# Altium footprint library ST Microelectronics STM32 G0.PcbLib: 22 footprints (part 1 of 2)
Each footprint in its own frame and in the unit in brackets; x right, y up, seen from the top. Pads: shape width x height; smd on the part's side, far side on the other; paste and mask are expansions set on the pad; w line width, h text height; cw(c..) or ccw(c..) is an arc to the next point about the centre after c.
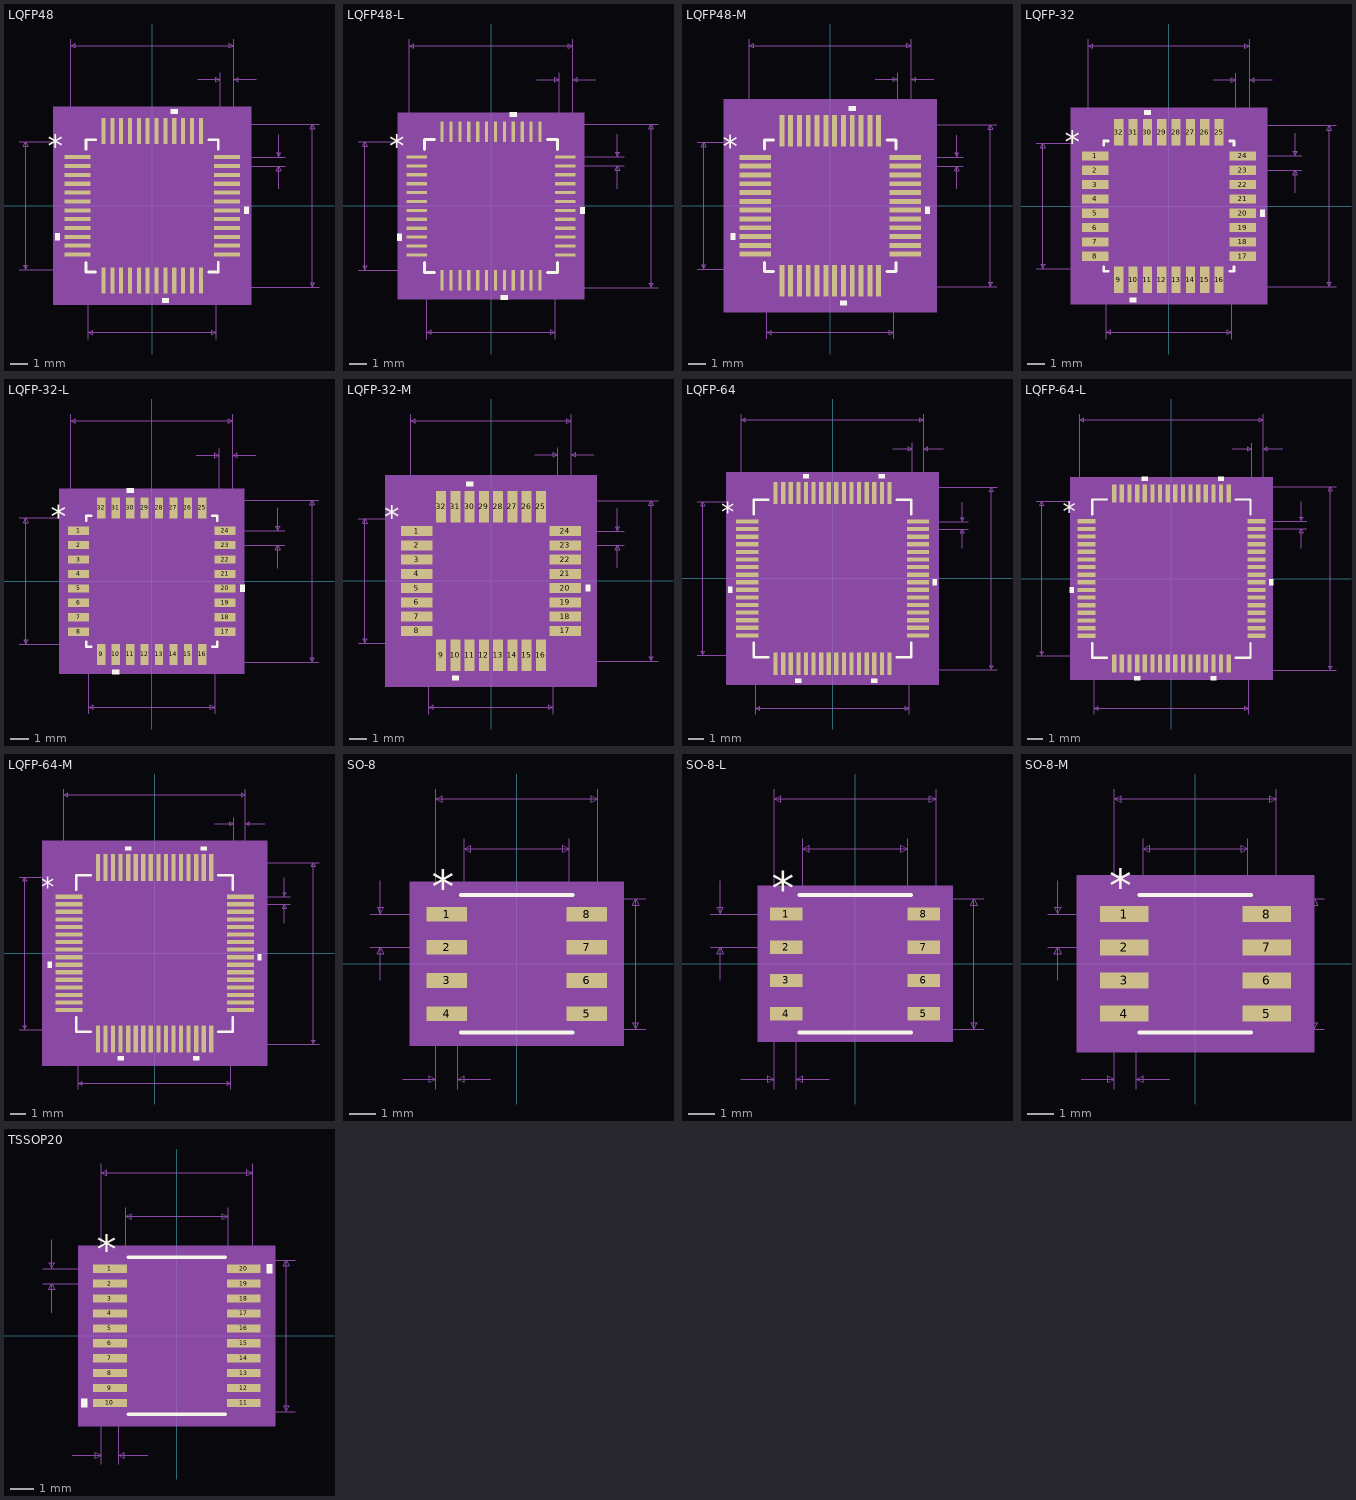
[diagram p0: the footprints below, top view; thin cyan lines are the x and y axes]

## LQFP48 [mil] "STM32 package, LQFP-48, 7 x 7mm"
pads (48):
  rect 58x9 smd paste+0 mask+0: 1(-166,108.27) 2(-166,88.58) 3(-166,68.9) 4(-166,49.21) 5(-166,29.53) 6(-166,9.84) 7(-166,-9.84) 8(-166,-29.53) 9(-166,-49.21) 10(-166,-68.9) 11(-166,-88.58) 12(-166,-108.27) 25(166,-108.27) 26(166,-88.58) 27(166,-68.9) 28(166,-49.21) 29(166,-29.53) 30(166,-9.84) 31(166,9.84) 32(166,29.53) 33(166,49.21) 34(166,68.9) 35(166,88.58) 36(166,108.27)
  rect 9x58 smd paste+0 mask+0: 13(-108.27,-166) 14(-88.58,-166) 15(-68.9,-166) 16(-49.21,-166) 17(-29.53,-166) 18(-9.84,-166) 19(9.84,-166) 20(29.53,-166) 21(49.21,-166) 22(68.9,-166) 23(88.58,-166) 24(108.27,-166) 37(108.27,166) 38(88.58,166) 39(68.9,166) 40(49.21,166) 41(29.53,166) 42(9.84,166) 43(-9.84,166) 44(-29.53,166) 45(-49.21,166) 46(-68.9,166) 47(-88.58,166) 48(-108.27,166)
Top Overlay:
  region: -205,-61.4 -215,-61.4 -215,-76.4 -205,-76.4
  region: 37.03,-205 22.03,-205 22.03,-215 37.03,-215
  region: 205,-2.34 215,-2.34 215,-17.34 205,-17.34
  region: 56.71,205 41.71,205 41.71,215 56.71,215
  lines w6: -147,-125.87 -147,-147 -125.87,-147 ; -147,125.87 -147,147 -125.87,147 ; 125.87,-147 147,-147 147,-125.87 ; 125.87,147 147,147 147,125.87
  text "*" at -232.5,108.11 h50
Mechanical 5:
  region: 220,-220 -220,-220 -220,220 220,220
Mechanical 7:
  lines w1: -296,-142 -108.27,-142 ; -296,142 -108.27,142 ; -181,108.27 -181,371 ; -142,-296 -142,-108.27 ; 101,281 151,281 ; 108.27,-181 371,-181 ; 108.27,181 371,181 ; 142,-296 142,-108.27 ; 151,108.27 151,296 ; 166,88.58 296,88.58 ; 166,108.27 296,108.27 ; 181,296 181,108.27 181,371 ; 231,281 181,281 ; 281,38.58 281,88.58 ; 281,158.27 281,108.27 ; -281,-142 -281,142 ; -281,-142 -286,-132 -276,-132 -281,-142 ; -281,142 -286,132 -276,132 -281,142 ; -181,356 181,356 ; -181,356 -171,361 -171,351 -181,356 ; -142,-281 142,-281 ; -142,-281 -132,-276 -132,-286 -142,-281 ; 142,-281 132,-276 132,-286 142,-281 ; 151,281 141,286 141,276 151,281 ; 181,281 191,286 191,276 181,281 ; 181,356 171,361 171,351 181,356 ; 281,88.58 276,78.58 286,78.58 281,88.58 ; 281,108.27 276,118.27 286,118.27 281,108.27 ; 356,-181 356,181 ; 356,-181 351,-171 361,-171 356,-181 ; 356,181 351,171 361,171 356,181
  text "Default Horiz Padstyle: RX9Y58D0T" at -412.5,-431 h50
  text "Default Vert Padstyle: RX9Y58D0T" at -400,-491 h50
  text "Alt 1 Padstyle: OX60Y90D30P" at -337.5,-671 h50
  text "Alt 2 Padstyle: OX90Y60D30P" at -337.5,-731 h50
  text "0.02in/0.5mm" at 301,85.93 h25
  text "0.03in/0.762mm" at 78.5,301 h25
  text "0.362in/9.195mm" at -93.75,376 h25
  text "0.284in/7.214mm" at -93.75,-326 h25
  text "0.284in/7.214mm" at -488.5,-12.5 h25
  text "0.362in/9.195mm" at 376,-12.5 h25
Mechanical 13:
  drawing of 197 lines, arcs and shapes, not listed
  text "*" at -139.5,93.11 h50
Mechanical 15:
  region: -122.77,-152 -152,-152 -152,-122.77 -205,-122.77 -205,122.77 -152,122.77 -152,152 -122.77,152 -122.77,205 122.77,205 122.77,152 152,152 152,122.77 205,122.77 205,-122.77 152,-122.77 152,-152 122.77,-152 122.77,-205 -122.77,-205
  lines w6: -205,-122.77 -152,-122.77 -152,-152 -122.77,-152 -122.77,-205 122.77,-205 122.77,-152 152,-152 152,-122.77 205,-122.77 205,122.77 152,122.77 152,152 122.77,152 122.77,205 -122.77,205 -122.77,152 -152,152 -152,122.77 -205,122.77 -205,-122.77
3D body "LQFP48.step": height 63.11, standoff 0, extent -180.98,-180.98 180.99,180.99
3D body: height 10, standoff 0, extent 0,0 10,10

## LQFP48-L [mil] "STM32 package, LQFP-48, 7 x 7mm"
pads (48):
  rect 46x7 smd paste+0 mask+0: 1(-164,108.27) 2(-164,88.58) 3(-164,68.9) 4(-164,49.21) 5(-164,29.53) 6(-164,9.84) 7(-164,-9.84) 8(-164,-29.53) 9(-164,-49.21) 10(-164,-68.9) 11(-164,-88.58) 12(-164,-108.27) 25(164,-108.27) 26(164,-88.58) 27(164,-68.9) 28(164,-49.21) 29(164,-29.53) 30(164,-9.84) 31(164,9.84) 32(164,29.53) 33(164,49.21) 34(164,68.9) 35(164,88.58) 36(164,108.27)
  rect 7x46 smd paste+0 mask+0: 13(-108.27,-164) 14(-88.58,-164) 15(-68.9,-164) 16(-49.21,-164) 17(-29.53,-164) 18(-9.84,-164) 19(9.84,-164) 20(29.53,-164) 21(49.21,-164) 22(68.9,-164) 23(88.58,-164) 24(108.27,-164) 37(108.27,164) 38(88.58,164) 39(68.9,164) 40(49.21,164) 41(29.53,164) 42(9.84,164) 43(-9.84,164) 44(-29.53,164) 45(-49.21,164) 46(-68.9,164) 47(-88.58,164) 48(-108.27,164)
Top Overlay:
  region: -197,-61.4 -207,-61.4 -207,-76.4 -197,-76.4
  region: 37.03,-197 22.03,-197 22.03,-207 37.03,-207
  region: 197,-2.34 207,-2.34 207,-17.34 197,-17.34
  region: 56.71,197 41.71,197 41.71,207 56.71,207
  lines w6: -147,-124.87 -147,-147 -124.87,-147 ; -147,124.87 -147,147 -124.87,147 ; 124.87,-147 147,-147 147,-124.87 ; 124.87,147 147,147 147,124.87
  text "*" at -224.5,108.11 h50
Mechanical 5:
  region: 206,-206 -206,-206 -206,206 206,206
Mechanical 7:
  lines w1: -294,-142 -108.27,-142 ; -294,142 -108.27,142 ; -181,108.27 -181,369 ; -142,-294 -142,-108.27 ; 101,279 151,279 ; 108.27,-181 369,-181 ; 108.27,181 369,181 ; 142,-294 142,-108.27 ; 151,108.27 151,294 ; 164,88.58 294,88.58 ; 164,108.27 294,108.27 ; 181,294 181,108.27 181,369 ; 231,279 181,279 ; 279,38.58 279,88.58 ; 279,158.27 279,108.27 ; -279,-142 -279,142 ; -279,-142 -284,-132 -274,-132 -279,-142 ; -279,142 -284,132 -274,132 -279,142 ; -181,354 181,354 ; -181,354 -171,359 -171,349 -181,354 ; -142,-279 142,-279 ; -142,-279 -132,-274 -132,-284 -142,-279 ; 142,-279 132,-274 132,-284 142,-279 ; 151,279 141,284 141,274 151,279 ; 181,279 191,284 191,274 181,279 ; 181,354 171,359 171,349 181,354 ; 279,88.58 274,78.58 284,78.58 279,88.58 ; 279,108.27 274,118.27 284,118.27 279,108.27 ; 354,-181 354,181 ; 354,-181 349,-171 359,-171 354,-181 ; 354,181 349,171 359,171 354,181
  text "Default Horiz Padstyle: RX7Y46D0T" at -412.5,-429 h50
  text "Default Vert Padstyle: RX7Y46D0T" at -400,-489 h50
  text "Alt 1 Padstyle: OX60Y90D30P" at -337.5,-669 h50
  text "Alt 2 Padstyle: OX90Y60D30P" at -337.5,-729 h50
  text "0.02in/0.5mm" at 299,85.93 h25
  text "0.03in/0.762mm" at 78.5,299 h25
  text "0.362in/9.195mm" at -93.75,374 h25
  text "0.284in/7.214mm" at -93.75,-324 h25
  text "0.284in/7.214mm" at -486.5,-12.5 h25
  text "0.362in/9.195mm" at 374,-12.5 h25
Mechanical 13:
  drawing of 197 lines, arcs and shapes, not listed
  text "*" at -139.5,93.11 h50
Mechanical 15:
  region: -115.77,-146 -146,-146 -146,-115.77 -191,-115.77 -191,115.77 -146,115.77 -146,146 -115.77,146 -115.77,191 115.77,191 115.77,146 146,146 146,115.77 191,115.77 191,-115.77 146,-115.77 146,-146 115.77,-146 115.77,-191 -115.77,-191
  lines w6: -191,-115.77 -146,-115.77 -146,-146 -115.77,-146 -115.77,-191 115.77,-191 115.77,-146 146,-146 146,-115.77 191,-115.77 191,115.77 146,115.77 146,146 115.77,146 115.77,191 -115.77,191 -115.77,146 -146,146 -146,115.77 -191,115.77 -191,-115.77
3D body "LQFP48-L.step": height 63.11, standoff 0, extent -180.98,-180.98 180.99,180.99
3D body: height 10, standoff 0, extent 0,0 10,10

## LQFP48-M [mil] "STM32 package, LQFP-48, 7 x 7mm"
pads (48):
  rect 70x11 smd paste+0 mask+0: 1(-168,108.27) 2(-168,88.58) 3(-168,68.9) 4(-168,49.21) 5(-168,29.53) 6(-168,9.84) 7(-168,-9.84) 8(-168,-29.53) 9(-168,-49.21) 10(-168,-68.9) 11(-168,-88.58) 12(-168,-108.27) 25(168,-108.27) 26(168,-88.58) 27(168,-68.9) 28(168,-49.21) 29(168,-29.53) 30(168,-9.84) 31(168,9.84) 32(168,29.53) 33(168,49.21) 34(168,68.9) 35(168,88.58) 36(168,108.27)
  rect 11x70 smd paste+0 mask+0: 13(-108.27,-168) 14(-88.58,-168) 15(-68.9,-168) 16(-49.21,-168) 17(-29.53,-168) 18(-9.84,-168) 19(9.84,-168) 20(29.53,-168) 21(49.21,-168) 22(68.9,-168) 23(88.58,-168) 24(108.27,-168) 37(108.27,168) 38(88.58,168) 39(68.9,168) 40(49.21,168) 41(29.53,168) 42(9.84,168) 43(-9.84,168) 44(-29.53,168) 45(-49.21,168) 46(-68.9,168) 47(-88.58,168) 48(-108.27,168)
Top Overlay:
  region: -213,-61.4 -223,-61.4 -223,-76.4 -213,-76.4
  region: 37.03,-213 22.03,-213 22.03,-223 37.03,-223
  region: 213,-2.34 223,-2.34 223,-17.34 213,-17.34
  region: 56.71,213 41.71,213 41.71,223 56.71,223
  lines w6: -147,-126.87 -147,-147 -126.87,-147 ; -147,126.87 -147,147 -126.87,147 ; 126.87,-147 147,-147 147,-126.87 ; 126.87,147 147,147 147,126.87
  text "*" at -240.5,108.11 h50
Mechanical 5:
  region: 238,-238 -238,-238 -238,238 238,238
Mechanical 7:
  lines w1: -298,-142 -108.27,-142 ; -298,142 -108.27,142 ; -181,108.27 -181,373 ; -142,-298 -142,-108.27 ; 101,283 151,283 ; 108.27,-181 373,-181 ; 108.27,181 373,181 ; 142,-298 142,-108.27 ; 151,108.27 151,298 ; 168,88.58 298,88.58 ; 168,108.27 298,108.27 ; 181,298 181,108.27 181,373 ; 231,283 181,283 ; 283,38.58 283,88.58 ; 283,158.27 283,108.27 ; -283,-142 -283,142 ; -283,-142 -288,-132 -278,-132 -283,-142 ; -283,142 -288,132 -278,132 -283,142 ; -181,358 181,358 ; -181,358 -171,363 -171,353 -181,358 ; -142,-283 142,-283 ; -142,-283 -132,-278 -132,-288 -142,-283 ; 142,-283 132,-278 132,-288 142,-283 ; 151,283 141,288 141,278 151,283 ; 181,283 191,288 191,278 181,283 ; 181,358 171,363 171,353 181,358 ; 283,88.58 278,78.58 288,78.58 283,88.58 ; 283,108.27 278,118.27 288,118.27 283,108.27 ; 358,-181 358,181 ; 358,-181 353,-171 363,-171 358,-181 ; 358,181 353,171 363,171 358,181
  text "Default Horiz Padstyle: RX11Y70D0T" at -425,-433 h50
  text "Default Vert Padstyle: RX11Y70D0T" at -412.5,-493 h50
  text "Alt 1 Padstyle: OX60Y90D30P" at -337.5,-673 h50
  text "Alt 2 Padstyle: OX90Y60D30P" at -337.5,-733 h50
  text "0.02in/0.5mm" at 303,85.93 h25
  text "0.03in/0.762mm" at 78.5,303 h25
  text "0.362in/9.195mm" at -93.75,378 h25
  text "0.284in/7.214mm" at -93.75,-328 h25
  text "0.284in/7.214mm" at -490.5,-12.5 h25
  text "0.362in/9.195mm" at 378,-12.5 h25
Mechanical 13:
  drawing of 197 lines, arcs and shapes, not listed
  text "*" at -139.5,93.11 h50
Mechanical 15:
  region: -133.77,-162 -162,-162 -162,-133.77 -223,-133.77 -223,133.77 -162,133.77 -162,162 -133.77,162 -133.77,223 133.77,223 133.77,162 162,162 162,133.77 223,133.77 223,-133.77 162,-133.77 162,-162 133.77,-162 133.77,-223 -133.77,-223
  lines w6: -223,-133.77 -162,-133.77 -162,-162 -133.77,-162 -133.77,-223 133.77,-223 133.77,-162 162,-162 162,-133.77 223,-133.77 223,133.77 162,133.77 162,162 133.77,162 133.77,223 -133.77,223 -133.77,162 -162,162 -162,133.77 -223,133.77 -223,-133.77
3D body: height 10, standoff 0, extent 0,0 10,10
3D body "LQFP48-M.step": height 63.11, standoff 0, extent -180.98,-180.98 180.99,180.99

## LQFP-32 [mil] "STM32 package, LQFP-32, 7 x 7mm"
pads (32):
  rect 58x20 smd paste+0 mask+0: 1(-162,110.24) 2(-162,78.74) 3(-162,47.24) 4(-162,15.75) 5(-162,-15.75) 6(-162,-47.24) 7(-162,-78.74) 8(-162,-110.24) 17(162,-110.24) 18(162,-78.74) 19(162,-47.24) 20(162,-15.75) 21(162,15.75) 22(162,47.24) 23(162,78.74) 24(162,110.24)
  rect 20x58 smd paste+0 mask+0: 9(-110.24,-162) 10(-78.74,-162) 11(-47.24,-162) 12(-15.75,-162) 13(15.75,-162) 14(47.24,-162) 15(78.74,-162) 16(110.24,-162) 25(110.24,162) 26(78.74,162) 27(47.24,162) 28(15.75,162) 29(-15.75,162) 30(-47.24,162) 31(-78.74,162) 32(-110.24,162)
Top Overlay:
  region: -71.24,-201 -86.24,-201 -86.24,-211 -71.24,-211
  region: 201,-8.25 211,-8.25 211,-23.25 201,-23.25
  region: -39.74,201 -54.74,201 -54.74,211 -39.74,211
  lines w6: -143,-133.34 -143,-143 -133.34,-143 ; -143,133.34 -143,143 -133.34,143 ; 133.34,-143 143,-143 143,-133.34 ; 133.34,143 143,143 143,133.34
  text "*" at -228.5,115.98 h50
Mechanical 5:
  region: 216,-216 -216,-216 -216,216 216,216
Mechanical 7:
  lines w1: -292,-138 -110.24,-138 ; -292,138 -110.24,138 ; -177,110.24 -177,367 ; -138,-292 -138,-110.24 ; 97,277 147,277 ; 110.24,-177 367,-177 ; 110.24,177 367,177 ; 138,-292 138,-110.24 ; 147,110.24 147,292 ; 162,78.74 292,78.74 ; 162,110.24 292,110.24 ; 177,292 177,110.24 177,367 ; 227,277 177,277 ; 277,28.74 277,78.74 ; 277,160.24 277,110.24 ; -277,-138 -277,138 ; -277,-138 -282,-128 -272,-128 -277,-138 ; -277,138 -282,128 -272,128 -277,138 ; -177,352 177,352 ; -177,352 -167,357 -167,347 -177,352 ; -138,-277 138,-277 ; -138,-277 -128,-272 -128,-282 -138,-277 ; 138,-277 128,-272 128,-282 138,-277 ; 147,277 137,282 137,272 147,277 ; 177,277 187,282 187,272 177,277 ; 177,352 167,357 167,347 177,352 ; 277,78.74 272,68.74 282,68.74 277,78.74 ; 277,110.24 272,120.24 282,120.24 277,110.24 ; 352,-177 352,177 ; 352,-177 347,-167 357,-167 352,-177 ; 352,177 347,167 357,167 352,177
  text "Default Horiz Padstyle: RX20Y58D0T" at -425,-427 h50
  text "Default Vert Padstyle: RX20Y58D0T" at -412.5,-487 h50
  text "Alt 1 Padstyle: OX60Y90D30P" at -337.5,-667 h50
  text "Alt 2 Padstyle: OX90Y60D30P" at -337.5,-727 h50
  text "0.031in/0.8mm" at 297,81.99 h25
  text "0.03in/0.762mm" at 74.5,297 h25
  text "0.354in/8.992mm" at -93.75,372 h25
  text "0.276in/7.01mm" at -87.5,-322 h25
  text "0.276in/7.01mm" at -472,-12.5 h25
  text "0.354in/8.992mm" at 372,-12.5 h25
Mechanical 13:
  lines w1: -138,88 -88,138 ; -177,-119.24 -177,-101.24 -138,-101.24 -138,-119.24 -177,-119.24 ; -177,-87.74 -177,-69.74 -138,-69.74 -138,-87.74 -177,-87.74 ; -177,-56.24 -177,-38.24 -138,-38.24 -138,-56.24 -177,-56.24 ; -177,-24.75 -177,-6.75 -138,-6.75 -138,-24.75 -177,-24.75 ; -177,6.75 -177,24.75 -138,24.75 -138,6.75 -177,6.75 ; -177,38.24 -177,56.24 -138,56.24 -138,38.24 -177,38.24 ; -177,69.74 -177,87.74 -138,87.74 -138,69.74 -177,69.74 ; -177,101.24 -177,119.24 -138,119.24 -138,101.24 -177,101.24 ; -138,-138 138,-138 138,138 -138,138 -138,-138 ; -119.24,-177 -119.24,-138 -101.24,-138 -101.24,-177 -119.24,-177 ; -119.24,138 -101.24,138 -101.24,177 -119.24,177 -119.24,138 ; -87.74,-177 -87.74,-138 -69.74,-138 -69.74,-177 -87.74,-177 ; -87.74,138 -69.74,138 -69.74,177 -87.74,177 -87.74,138 ; -56.24,-177 -56.24,-138 -38.24,-138 -38.24,-177 -56.24,-177 ; -56.24,138 -38.24,138 -38.24,177 -56.24,177 -56.24,138 ; -24.75,-177 -24.75,-138 -6.75,-138 -6.75,-177 -24.75,-177 ; -24.75,138 -6.75,138 -6.75,177 -24.75,177 -24.75,138 ; 6.75,-177 6.75,-138 24.75,-138 24.75,-177 6.75,-177 ; 6.75,138 24.75,138 24.75,177 6.75,177 6.75,138 ; 38.24,-177 38.24,-138 56.24,-138 56.24,-177 38.24,-177 ; 38.24,138 56.24,138 56.24,177 38.24,177 38.24,138 ; 69.74,-177 69.74,-138 87.74,-138 87.74,-177 69.74,-177 ; 69.74,138 87.74,138 87.74,177 69.74,177 69.74,138 ; 101.24,-177 101.24,-138 119.24,-138 119.24,-177 101.24,-177 ; 101.24,138 119.24,138 119.24,177 101.24,177 101.24,138 ; 138,-119.24 138,-101.24 177,-101.24 177,-119.24 138,-119.24 ; 138,-87.74 138,-69.74 177,-69.74 177,-87.74 138,-87.74 ; 138,-56.24 138,-38.24 177,-38.24 177,-56.24 138,-56.24 ; 138,-24.75 138,-6.75 177,-6.75 177,-24.75 138,-24.75 ; 138,6.75 138,24.75 177,24.75 177,6.75 138,6.75 ; 138,38.24 138,56.24 177,56.24 177,38.24 138,38.24 ; 138,69.74 138,87.74 177,87.74 177,69.74 138,69.74 ; 138,101.24 138,119.24 177,119.24 177,101.24 138,101.24
  text "*" at -135.5,100.98 h50
Mechanical 15:
  region: -130.24,-148 -148,-148 -148,-130.24 -201,-130.24 -201,130.24 -148,130.24 -148,148 -130.24,148 -130.24,201 130.24,201 130.24,148 148,148 148,130.24 201,130.24 201,-130.24 148,-130.24 148,-148 130.24,-148 130.24,-201 -130.24,-201
  lines w6: -201,-130.24 -148,-130.24 -148,-148 -130.24,-148 -130.24,-201 130.24,-201 130.24,-148 148,-148 148,-130.24 201,-130.24 201,130.24 148,130.24 148,148 130.24,148 130.24,201 -130.24,201 -130.24,148 -148,148 -148,130.24 -201,130.24 -201,-130.24
3D body: height 10, standoff 0, extent 0,0 10,10
3D body "LQFP-32.step": height 63.11, standoff 0, extent -177,-177 177.01,177.01

## LQFP-32-L [mil] "STM32 package, LQFP-32, 7 x 7mm"
pads (32):
  rect 46x18 smd paste+0 mask+0: 1(-160,110.24) 2(-160,78.74) 3(-160,47.24) 4(-160,15.75) 5(-160,-15.75) 6(-160,-47.24) 7(-160,-78.74) 8(-160,-110.24) 17(160,-110.24) 18(160,-78.74) 19(160,-47.24) 20(160,-15.75) 21(160,15.75) 22(160,47.24) 23(160,78.74) 24(160,110.24)
  rect 18x46 smd paste+0 mask+0: 9(-110.24,-160) 10(-78.74,-160) 11(-47.24,-160) 12(-15.75,-160) 13(15.75,-160) 14(47.24,-160) 15(78.74,-160) 16(110.24,-160) 25(110.24,160) 26(78.74,160) 27(47.24,160) 28(15.75,160) 29(-15.75,160) 30(-47.24,160) 31(-78.74,160) 32(-110.24,160)
Top Overlay:
  region: -71.24,-193 -86.24,-193 -86.24,-203 -71.24,-203
  region: 193,-8.25 203,-8.25 203,-23.25 193,-23.25
  region: -39.74,193 -54.74,193 -54.74,203 -39.74,203
  lines w6: -143,-132.34 -143,-143 -132.34,-143 ; -143,132.34 -143,143 -132.34,143 ; 132.34,-143 143,-143 143,-132.34 ; 132.34,143 143,143 143,132.34
  text "*" at -220.5,115.98 h50
Mechanical 5:
  region: 202,-202 -202,-202 -202,202 202,202
Mechanical 7:
  lines w1: -290,-138 -110.24,-138 ; -290,138 -110.24,138 ; -177,110.24 -177,365 ; -138,-290 -138,-110.24 ; 97,275 147,275 ; 110.24,-177 365,-177 ; 110.24,177 365,177 ; 138,-290 138,-110.24 ; 147,110.24 147,290 ; 160,78.74 290,78.74 ; 160,110.24 290,110.24 ; 177,290 177,110.24 177,365 ; 227,275 177,275 ; 275,28.74 275,78.74 ; 275,160.24 275,110.24 ; -275,-138 -275,138 ; -275,-138 -280,-128 -270,-128 -275,-138 ; -275,138 -280,128 -270,128 -275,138 ; -177,350 177,350 ; -177,350 -167,355 -167,345 -177,350 ; -138,-275 138,-275 ; -138,-275 -128,-270 -128,-280 -138,-275 ; 138,-275 128,-270 128,-280 138,-275 ; 147,275 137,280 137,270 147,275 ; 177,275 187,280 187,270 177,275 ; 177,350 167,355 167,345 177,350 ; 275,78.74 270,68.74 280,68.74 275,78.74 ; 275,110.24 270,120.24 280,120.24 275,110.24 ; 350,-177 350,177 ; 350,-177 345,-167 355,-167 350,-177 ; 350,177 345,167 355,167 350,177
  text "Default Horiz Padstyle: RX18Y46D0T" at -425,-425 h50
  text "Default Vert Padstyle: RX18Y46D0T" at -412.5,-485 h50
  text "Alt 1 Padstyle: OX60Y90D30P" at -337.5,-665 h50
  text "Alt 2 Padstyle: OX90Y60D30P" at -337.5,-725 h50
  text "0.031in/0.8mm" at 295,81.99 h25
  text "0.03in/0.762mm" at 74.5,295 h25
  text "0.354in/8.992mm" at -93.75,370 h25
  text "0.276in/7.01mm" at -87.5,-320 h25
  text "0.276in/7.01mm" at -470,-12.5 h25
  text "0.354in/8.992mm" at 370,-12.5 h25
Mechanical 13:
  lines w1: -138,88 -88,138 ; -177,-119.24 -177,-101.24 -138,-101.24 -138,-119.24 -177,-119.24 ; -177,-87.74 -177,-69.74 -138,-69.74 -138,-87.74 -177,-87.74 ; -177,-56.24 -177,-38.24 -138,-38.24 -138,-56.24 -177,-56.24 ; -177,-24.75 -177,-6.75 -138,-6.75 -138,-24.75 -177,-24.75 ; -177,6.75 -177,24.75 -138,24.75 -138,6.75 -177,6.75 ; -177,38.24 -177,56.24 -138,56.24 -138,38.24 -177,38.24 ; -177,69.74 -177,87.74 -138,87.74 -138,69.74 -177,69.74 ; -177,101.24 -177,119.24 -138,119.24 -138,101.24 -177,101.24 ; -138,-138 138,-138 138,138 -138,138 -138,-138 ; -119.24,-177 -119.24,-138 -101.24,-138 -101.24,-177 -119.24,-177 ; -119.24,138 -101.24,138 -101.24,177 -119.24,177 -119.24,138 ; -87.74,-177 -87.74,-138 -69.74,-138 -69.74,-177 -87.74,-177 ; -87.74,138 -69.74,138 -69.74,177 -87.74,177 -87.74,138 ; -56.24,-177 -56.24,-138 -38.24,-138 -38.24,-177 -56.24,-177 ; -56.24,138 -38.24,138 -38.24,177 -56.24,177 -56.24,138 ; -24.75,-177 -24.75,-138 -6.75,-138 -6.75,-177 -24.75,-177 ; -24.75,138 -6.75,138 -6.75,177 -24.75,177 -24.75,138 ; 6.75,-177 6.75,-138 24.75,-138 24.75,-177 6.75,-177 ; 6.75,138 24.75,138 24.75,177 6.75,177 6.75,138 ; 38.24,-177 38.24,-138 56.24,-138 56.24,-177 38.24,-177 ; 38.24,138 56.24,138 56.24,177 38.24,177 38.24,138 ; 69.74,-177 69.74,-138 87.74,-138 87.74,-177 69.74,-177 ; 69.74,138 87.74,138 87.74,177 69.74,177 69.74,138 ; 101.24,-177 101.24,-138 119.24,-138 119.24,-177 101.24,-177 ; 101.24,138 119.24,138 119.24,177 101.24,177 101.24,138 ; 138,-119.24 138,-101.24 177,-101.24 177,-119.24 138,-119.24 ; 138,-87.74 138,-69.74 177,-69.74 177,-87.74 138,-87.74 ; 138,-56.24 138,-38.24 177,-38.24 177,-56.24 138,-56.24 ; 138,-24.75 138,-6.75 177,-6.75 177,-24.75 138,-24.75 ; 138,6.75 138,24.75 177,24.75 177,6.75 138,6.75 ; 138,38.24 138,56.24 177,56.24 177,38.24 138,38.24 ; 138,69.74 138,87.74 177,87.74 177,69.74 138,69.74 ; 138,101.24 138,119.24 177,119.24 177,101.24 138,101.24
  text "*" at -135.5,100.98 h50
Mechanical 15:
  region: -123.24,-142 -142,-142 -142,-123.24 -187,-123.24 -187,123.24 -142,123.24 -142,142 -123.24,142 -123.24,187 123.24,187 123.24,142 142,142 142,123.24 187,123.24 187,-123.24 142,-123.24 142,-142 123.24,-142 123.24,-187 -123.24,-187
  lines w6: -187,-123.24 -142,-123.24 -142,-142 -123.24,-142 -123.24,-187 123.24,-187 123.24,-142 142,-142 142,-123.24 187,-123.24 187,123.24 142,123.24 142,142 123.24,142 123.24,187 -123.24,187 -123.24,142 -142,142 -142,123.24 -187,123.24 -187,-123.24
3D body "LQFP-32-L.step": height 63.11, standoff 0, extent -177,-177 177.01,177.01
3D body: height 10, standoff 0, extent 0,0 10,10

## LQFP-32-M [mil] "STM32 package, LQFP-32, 7 x 7mm"
pads (32):
  rect 70x22 smd paste+0 mask+0: 1(-164,110.24) 2(-164,78.74) 3(-164,47.24) 4(-164,15.75) 5(-164,-15.75) 6(-164,-47.24) 7(-164,-78.74) 8(-164,-110.24) 17(164,-110.24) 18(164,-78.74) 19(164,-47.24) 20(164,-15.75) 21(164,15.75) 22(164,47.24) 23(164,78.74) 24(164,110.24)
  rect 22x70 smd paste+0 mask+0: 9(-110.24,-164) 10(-78.74,-164) 11(-47.24,-164) 12(-15.75,-164) 13(15.75,-164) 14(47.24,-164) 15(78.74,-164) 16(110.24,-164) 25(110.24,164) 26(78.74,164) 27(47.24,164) 28(15.75,164) 29(-15.75,164) 30(-47.24,164) 31(-78.74,164) 32(-110.24,164)
Top Overlay:
  region: -71.24,-209 -86.24,-209 -86.24,-219 -71.24,-219
  region: 209,-8.25 219,-8.25 219,-23.25 209,-23.25
  region: -39.74,209 -54.74,209 -54.74,219 -39.74,219
  text "*" at -236.5,115.98 h50
Mechanical 5:
  region: 234,-234 -234,-234 -234,234 234,234
Mechanical 7:
  lines w1: -294,-138 -110.24,-138 ; -294,138 -110.24,138 ; -177,110.24 -177,369 ; -138,-294 -138,-110.24 ; 97,279 147,279 ; 110.24,-177 369,-177 ; 110.24,177 369,177 ; 138,-294 138,-110.24 ; 147,110.24 147,294 ; 164,78.74 294,78.74 ; 164,110.24 294,110.24 ; 177,294 177,110.24 177,369 ; 227,279 177,279 ; 279,28.74 279,78.74 ; 279,160.24 279,110.24 ; -279,-138 -279,138 ; -279,-138 -284,-128 -274,-128 -279,-138 ; -279,138 -284,128 -274,128 -279,138 ; -177,354 177,354 ; -177,354 -167,359 -167,349 -177,354 ; -138,-279 138,-279 ; -138,-279 -128,-274 -128,-284 -138,-279 ; 138,-279 128,-274 128,-284 138,-279 ; 147,279 137,284 137,274 147,279 ; 177,279 187,284 187,274 177,279 ; 177,354 167,359 167,349 177,354 ; 279,78.74 274,68.74 284,68.74 279,78.74 ; 279,110.24 274,120.24 284,120.24 279,110.24 ; 354,-177 354,177 ; 354,-177 349,-167 359,-167 354,-177 ; 354,177 349,167 359,167 354,177
  text "Default Horiz Padstyle: RX22Y70D0T" at -425,-429 h50
  text "Default Vert Padstyle: RX22Y70D0T" at -412.5,-489 h50
  text "Alt 1 Padstyle: OX60Y90D30P" at -337.5,-669 h50
  text "Alt 2 Padstyle: OX90Y60D30P" at -337.5,-729 h50
  text "0.031in/0.8mm" at 299,81.99 h25
  text "0.03in/0.762mm" at 74.5,299 h25
  text "0.354in/8.992mm" at -93.75,374 h25
  text "0.276in/7.01mm" at -87.5,-324 h25
  text "0.276in/7.01mm" at -474,-12.5 h25
  text "0.354in/8.992mm" at 374,-12.5 h25
Mechanical 13:
  lines w1: -138,88 -88,138 ; -177,-119.24 -177,-101.24 -138,-101.24 -138,-119.24 -177,-119.24 ; -177,-87.74 -177,-69.74 -138,-69.74 -138,-87.74 -177,-87.74 ; -177,-56.24 -177,-38.24 -138,-38.24 -138,-56.24 -177,-56.24 ; -177,-24.75 -177,-6.75 -138,-6.75 -138,-24.75 -177,-24.75 ; -177,6.75 -177,24.75 -138,24.75 -138,6.75 -177,6.75 ; -177,38.24 -177,56.24 -138,56.24 -138,38.24 -177,38.24 ; -177,69.74 -177,87.74 -138,87.74 -138,69.74 -177,69.74 ; -177,101.24 -177,119.24 -138,119.24 -138,101.24 -177,101.24 ; -138,-138 138,-138 138,138 -138,138 -138,-138 ; -119.24,-177 -119.24,-138 -101.24,-138 -101.24,-177 -119.24,-177 ; -119.24,138 -101.24,138 -101.24,177 -119.24,177 -119.24,138 ; -87.74,-177 -87.74,-138 -69.74,-138 -69.74,-177 -87.74,-177 ; -87.74,138 -69.74,138 -69.74,177 -87.74,177 -87.74,138 ; -56.24,-177 -56.24,-138 -38.24,-138 -38.24,-177 -56.24,-177 ; -56.24,138 -38.24,138 -38.24,177 -56.24,177 -56.24,138 ; -24.75,-177 -24.75,-138 -6.75,-138 -6.75,-177 -24.75,-177 ; -24.75,138 -6.75,138 -6.75,177 -24.75,177 -24.75,138 ; 6.75,-177 6.75,-138 24.75,-138 24.75,-177 6.75,-177 ; 6.75,138 24.75,138 24.75,177 6.75,177 6.75,138 ; 38.24,-177 38.24,-138 56.24,-138 56.24,-177 38.24,-177 ; 38.24,138 56.24,138 56.24,177 38.24,177 38.24,138 ; 69.74,-177 69.74,-138 87.74,-138 87.74,-177 69.74,-177 ; 69.74,138 87.74,138 87.74,177 69.74,177 69.74,138 ; 101.24,-177 101.24,-138 119.24,-138 119.24,-177 101.24,-177 ; 101.24,138 119.24,138 119.24,177 101.24,177 101.24,138 ; 138,-119.24 138,-101.24 177,-101.24 177,-119.24 138,-119.24 ; 138,-87.74 138,-69.74 177,-69.74 177,-87.74 138,-87.74 ; 138,-56.24 138,-38.24 177,-38.24 177,-56.24 138,-56.24 ; 138,-24.75 138,-6.75 177,-6.75 177,-24.75 138,-24.75 ; 138,6.75 138,24.75 177,24.75 177,6.75 138,6.75 ; 138,38.24 138,56.24 177,56.24 177,38.24 138,38.24 ; 138,69.74 138,87.74 177,87.74 177,69.74 138,69.74 ; 138,101.24 138,119.24 177,119.24 177,101.24 138,101.24
  text "*" at -135.5,100.98 h50
Mechanical 15:
  region: -141.24,-158 -158,-158 -158,-141.24 -219,-141.24 -219,141.24 -158,141.24 -158,158 -141.24,158 -141.24,219 141.24,219 141.24,158 158,158 158,141.24 219,141.24 219,-141.24 158,-141.24 158,-158 141.24,-158 141.24,-219 -141.24,-219
  lines w6: -219,-141.24 -158,-141.24 -158,-158 -141.24,-158 -141.24,-219 141.24,-219 141.24,-158 158,-158 158,-141.24 219,-141.24 219,141.24 158,141.24 158,158 141.24,158 141.24,219 -141.24,219 -141.24,158 -158,158 -158,141.24 -219,141.24 -219,-141.24
3D body "LQFP-32-M.step": height 63.11, standoff 0, extent -177,-177 177.01,177.01
3D body: height 10, standoff 0, extent 0,0 10,10

## LQFP-64 [mil] "STM32 package, LQFP-64, 10 x 10mm"
pads (64):
  rect 58x11 smd paste+0 mask+0: 1(-221.5,147.64) 2(-221.5,127.95) 3(-221.5,108.27) 4(-221.5,88.58) 5(-221.5,68.9) 6(-221.5,49.21) 7(-221.5,29.53) 8(-221.5,9.84) 9(-221.5,-9.84) 10(-221.5,-29.53) 11(-221.5,-49.21) 12(-221.5,-68.9) 13(-221.5,-88.58) 14(-221.5,-108.27) 15(-221.5,-127.95) 16(-221.5,-147.64) 33(221.5,-147.64) 34(221.5,-127.95) 35(221.5,-108.27) 36(221.5,-88.58) 37(221.5,-68.9) 38(221.5,-49.21) 39(221.5,-29.53) 40(221.5,-9.84) 41(221.5,9.84) 42(221.5,29.53) 43(221.5,49.21) 44(221.5,68.9) 45(221.5,88.58) 46(221.5,108.27) 47(221.5,127.95) 48(221.5,147.64)
  rect 11x58 smd paste+0 mask+0: 17(-147.64,-221.5) 18(-127.95,-221.5) 19(-108.27,-221.5) 20(-88.58,-221.5) 21(-68.9,-221.5) 22(-49.21,-221.5) 23(-29.53,-221.5) 24(-9.84,-221.5) 25(9.84,-221.5) 26(29.53,-221.5) 27(49.21,-221.5) 28(68.9,-221.5) 29(88.58,-221.5) 30(108.27,-221.5) 31(127.95,-221.5) 32(147.64,-221.5) 49(147.64,221.5) 50(127.95,221.5) 51(108.27,221.5) 52(88.58,221.5) 53(68.9,221.5) 54(49.21,221.5) 55(29.53,221.5) 56(9.84,221.5) 57(-9.84,221.5) 58(-29.53,221.5) 59(-49.21,221.5) 60(-68.9,221.5) 61(-88.58,221.5) 62(-108.27,221.5) 63(-127.95,221.5) 64(-147.64,221.5)
Top Overlay:
  region: -61.4,260.5 -76.4,260.5 -76.4,270.5 -61.4,270.5
  region: 135.45,260.5 120.45,260.5 120.45,270.5 135.45,270.5
  region: 260.5,-2.34 270.5,-2.34 270.5,-17.34 260.5,-17.34
  region: 115.77,-260.5 100.77,-260.5 100.77,-270.5 115.77,-270.5
  region: -81.08,-260.5 -96.08,-260.5 -96.08,-270.5 -81.08,-270.5
  region: -260.5,-22.03 -270.5,-22.03 -270.5,-37.03 -260.5,-37.03
  lines w6: -204,-166.24 -204,-204 -166.24,-204 ; -204,166.24 -204,204 -166.24,204 ; 166.24,-204 204,-204 204,-166.24 ; 166.24,204 204,204 204,166.24
  text "*" at -288,147.48 h50
Mechanical 5:
  region: 275.5,-275.5 -275.5,-275.5 -275.5,275.5 275.5,275.5
Mechanical 7:
  lines w1: -351.5,-199 -147.64,-199 ; -351.5,199 -147.64,199 ; -236.5,147.64 -236.5,426.5 ; -199,-351.5 -199,-147.64 ; 147.64,-236.5 426.5,-236.5 ; 147.64,236.5 426.5,236.5 ; 156.5,336.5 206.5,336.5 ; 199,-351.5 199,-147.64 ; 206.5,147.64 206.5,351.5 ; 221.5,127.95 351.5,127.95 ; 221.5,147.64 351.5,147.64 ; 236.5,351.5 236.5,147.64 236.5,426.5 ; 286.5,336.5 236.5,336.5 ; 336.5,77.95 336.5,127.95 ; 336.5,197.64 336.5,147.64 ; -336.5,-199 -331.5,-189 -341.5,-189 -336.5,-199 ; -336.5,-199 -336.5,199 ; -336.5,199 -331.5,189 -341.5,189 -336.5,199 ; -236.5,411.5 -226.5,406.5 -226.5,416.5 -236.5,411.5 ; -236.5,411.5 236.5,411.5 ; -199,-336.5 -189,-341.5 -189,-331.5 -199,-336.5 ; -199,-336.5 199,-336.5 ; 199,-336.5 189,-341.5 189,-331.5 199,-336.5 ; 206.5,336.5 196.5,331.5 196.5,341.5 206.5,336.5 ; 236.5,336.5 246.5,331.5 246.5,341.5 236.5,336.5 ; 236.5,411.5 226.5,406.5 226.5,416.5 236.5,411.5 ; 336.5,127.95 341.5,117.95 331.5,117.95 336.5,127.95 ; 336.5,147.64 341.5,157.64 331.5,157.64 336.5,147.64 ; 411.5,-236.5 416.5,-226.5 406.5,-226.5 411.5,-236.5 ; 411.5,-236.5 411.5,236.5 ; 411.5,236.5 416.5,226.5 406.5,226.5 411.5,236.5
  text "0.473in/12.014mm" at 431.5,-12.5 h25
  text "0.398in/10.109mm" at -556.5,-12.5 h25
  text "0.398in/10.109mm" at -100,-381.5 h25
  text "0.473in/12.014mm" at -100,431.5 h25
  text "0.03in/0.762mm" at 134,356.5 h25
  text "0.02in/0.5mm" at 356.5,125.3 h25
  text "Alt 2 Padstyle: OX90Y60D30P" at -337.5,-786.5 h50
  text "Alt 1 Padstyle: OX60Y90D30P" at -337.5,-726.5 h50
  text "Default Vert Padstyle: RX11Y58D0T" at -412.5,-546.5 h50
  text "Default Horiz Padstyle: RX11Y58D0T" at -425,-486.5 h50
Mechanical 13:
  drawing of 261 lines, arcs and shapes, not listed
  text "*" at -196.5,132.48 h50
Mechanical 15:
  region: -163.14,-209 -209,-209 -209,-163.14 -260.5,-163.14 -260.5,163.14 -209,163.14 -209,209 -163.14,209 -163.14,260.5 163.14,260.5 163.14,209 209,209 209,163.14 260.5,163.14 260.5,-163.14 209,-163.14 209,-209 163.14,-209 163.14,-260.5 -163.14,-260.5
  lines w6: -260.5,-163.14 -260.5,163.14 -209,163.14 -209,209 -163.14,209 -163.14,260.5 163.14,260.5 163.14,209 209,209 209,163.14 260.5,163.14 260.5,-163.14 209,-163.14 209,-209 163.14,-209 163.14,-260.5 -163.14,-260.5 -163.14,-209 -209,-209 -209,-163.14 -260.5,-163.14
3D body "LQFP-64.step": height 63.11, standoff 0, extent -236.49,-236.49 236.5,236.5
3D body: height 10, standoff 0, extent 0,0 10,10

## LQFP-64-L [mil] "STM32 package, LQFP-64, 10 x 10mm"
pads (64):
  rect 46x11 smd paste+0 mask+0: 1(-219.5,147.64) 2(-219.5,127.95) 3(-219.5,108.27) 4(-219.5,88.58) 5(-219.5,68.9) 6(-219.5,49.21) 7(-219.5,29.53) 8(-219.5,9.84) 9(-219.5,-9.84) 10(-219.5,-29.53) 11(-219.5,-49.21) 12(-219.5,-68.9) 13(-219.5,-88.58) 14(-219.5,-108.27) 15(-219.5,-127.95) 16(-219.5,-147.64) 33(219.5,-147.64) 34(219.5,-127.95) 35(219.5,-108.27) 36(219.5,-88.58) 37(219.5,-68.9) 38(219.5,-49.21) 39(219.5,-29.53) 40(219.5,-9.84) 41(219.5,9.84) 42(219.5,29.53) 43(219.5,49.21) 44(219.5,68.9) 45(219.5,88.58) 46(219.5,108.27) 47(219.5,127.95) 48(219.5,147.64)
  rect 11x46 smd paste+0 mask+0: 17(-147.64,-219.5) 18(-127.95,-219.5) 19(-108.27,-219.5) 20(-88.58,-219.5) 21(-68.9,-219.5) 22(-49.21,-219.5) 23(-29.53,-219.5) 24(-9.84,-219.5) 25(9.84,-219.5) 26(29.53,-219.5) 27(49.21,-219.5) 28(68.9,-219.5) 29(88.58,-219.5) 30(108.27,-219.5) 31(127.95,-219.5) 32(147.64,-219.5) 49(147.64,219.5) 50(127.95,219.5) 51(108.27,219.5) 52(88.58,219.5) 53(68.9,219.5) 54(49.21,219.5) 55(29.53,219.5) 56(9.84,219.5) 57(-9.84,219.5) 58(-29.53,219.5) 59(-49.21,219.5) 60(-68.9,219.5) 61(-88.58,219.5) 62(-108.27,219.5) 63(-127.95,219.5) 64(-147.64,219.5)
Top Overlay:
  region: -61.4,252.5 -76.4,252.5 -76.4,262.5 -61.4,262.5
  region: 135.45,252.5 120.45,252.5 120.45,262.5 135.45,262.5
  region: 252.5,-2.34 262.5,-2.34 262.5,-17.34 252.5,-17.34
  region: 115.77,-252.5 100.77,-252.5 100.77,-262.5 115.77,-262.5
  region: -81.08,-252.5 -96.08,-252.5 -96.08,-262.5 -81.08,-262.5
  region: -252.5,-22.03 -262.5,-22.03 -262.5,-37.03 -252.5,-37.03
  lines w6: -204,-166.24 -204,-204 -166.24,-204 ; -204,166.24 -204,204 -166.24,204 ; 166.24,-204 204,-204 204,-166.24 ; 166.24,204 204,204 204,166.24
  text "*" at -280,147.48 h50
Mechanical 5:
  region: 261.5,-261.5 -261.5,-261.5 -261.5,261.5 261.5,261.5
Mechanical 7:
  lines w1: -349.5,-199 -147.64,-199 ; -349.5,199 -147.64,199 ; -236.5,147.64 -236.5,424.5 ; -199,-349.5 -199,-147.64 ; 147.64,-236.5 424.5,-236.5 ; 147.64,236.5 424.5,236.5 ; 156.5,334.5 206.5,334.5 ; 199,-349.5 199,-147.64 ; 206.5,147.64 206.5,349.5 ; 219.5,127.95 349.5,127.95 ; 219.5,147.64 349.5,147.64 ; 236.5,349.5 236.5,147.64 236.5,424.5 ; 286.5,334.5 236.5,334.5 ; 334.5,77.95 334.5,127.95 ; 334.5,197.64 334.5,147.64 ; -334.5,-199 -329.5,-189 -339.5,-189 -334.5,-199 ; -334.5,-199 -334.5,199 ; -334.5,199 -329.5,189 -339.5,189 -334.5,199 ; -236.5,409.5 -226.5,404.5 -226.5,414.5 -236.5,409.5 ; -236.5,409.5 236.5,409.5 ; -199,-334.5 -189,-339.5 -189,-329.5 -199,-334.5 ; -199,-334.5 199,-334.5 ; 199,-334.5 189,-339.5 189,-329.5 199,-334.5 ; 206.5,334.5 196.5,329.5 196.5,339.5 206.5,334.5 ; 236.5,334.5 246.5,329.5 246.5,339.5 236.5,334.5 ; 236.5,409.5 226.5,404.5 226.5,414.5 236.5,409.5 ; 334.5,127.95 339.5,117.95 329.5,117.95 334.5,127.95 ; 334.5,147.64 339.5,157.64 329.5,157.64 334.5,147.64 ; 409.5,-236.5 414.5,-226.5 404.5,-226.5 409.5,-236.5 ; 409.5,-236.5 409.5,236.5 ; 409.5,236.5 414.5,226.5 404.5,226.5 409.5,236.5
  text "0.473in/12.014mm" at 429.5,-12.5 h25
  text "0.398in/10.109mm" at -554.5,-12.5 h25
  text "0.398in/10.109mm" at -100,-379.5 h25
  text "0.473in/12.014mm" at -100,429.5 h25
  text "0.03in/0.762mm" at 134,354.5 h25
  text "0.02in/0.5mm" at 354.5,125.3 h25
  text "Alt 2 Padstyle: OX90Y60D30P" at -337.5,-784.5 h50
  text "Alt 1 Padstyle: OX60Y90D30P" at -337.5,-724.5 h50
  text "Default Vert Padstyle: RX11Y46D0T" at -412.5,-544.5 h50
  text "Default Horiz Padstyle: RX11Y46D0T" at -425,-484.5 h50
Mechanical 13:
  drawing of 261 lines, arcs and shapes, not listed
  text "*" at -196.5,132.48 h50
Mechanical 15:
  region: -157.14,-203 -203,-203 -203,-157.14 -246.5,-157.14 -246.5,157.14 -203,157.14 -203,203 -157.14,203 -157.14,246.5 157.14,246.5 157.14,203 203,203 203,157.14 246.5,157.14 246.5,-157.14 203,-157.14 203,-203 157.14,-203 157.14,-246.5 -157.14,-246.5
  lines w6: -246.5,-157.14 -246.5,157.14 -203,157.14 -203,203 -157.14,203 -157.14,246.5 157.14,246.5 157.14,203 203,203 203,157.14 246.5,157.14 246.5,-157.14 203,-157.14 203,-203 157.14,-203 157.14,-246.5 -157.14,-246.5 -157.14,-203 -203,-203 -203,-157.14 -246.5,-157.14
3D body "LQFP-64-L.step": height 63.11, standoff 0, extent -236.49,-236.49 236.5,236.5
3D body: height 10, standoff 0, extent 0,0 10,10

## LQFP-64-M [mil] "STM32 package, LQFP-64, 10 x 10mm"
pads (64):
  rect 70x11 smd paste+0 mask+0: 1(-223.5,147.64) 2(-223.5,127.95) 3(-223.5,108.27) 4(-223.5,88.58) 5(-223.5,68.9) 6(-223.5,49.21) 7(-223.5,29.53) 8(-223.5,9.84) 9(-223.5,-9.84) 10(-223.5,-29.53) 11(-223.5,-49.21) 12(-223.5,-68.9) 13(-223.5,-88.58) 14(-223.5,-108.27) 15(-223.5,-127.95) 16(-223.5,-147.64) 33(223.5,-147.64) 34(223.5,-127.95) 35(223.5,-108.27) 36(223.5,-88.58) 37(223.5,-68.9) 38(223.5,-49.21) 39(223.5,-29.53) 40(223.5,-9.84) 41(223.5,9.84) 42(223.5,29.53) 43(223.5,49.21) 44(223.5,68.9) 45(223.5,88.58) 46(223.5,108.27) 47(223.5,127.95) 48(223.5,147.64)
  rect 11x70 smd paste+0 mask+0: 17(-147.64,-223.5) 18(-127.95,-223.5) 19(-108.27,-223.5) 20(-88.58,-223.5) 21(-68.9,-223.5) 22(-49.21,-223.5) 23(-29.53,-223.5) 24(-9.84,-223.5) 25(9.84,-223.5) 26(29.53,-223.5) 27(49.21,-223.5) 28(68.9,-223.5) 29(88.58,-223.5) 30(108.27,-223.5) 31(127.95,-223.5) 32(147.64,-223.5) 49(147.64,223.5) 50(127.95,223.5) 51(108.27,223.5) 52(88.58,223.5) 53(68.9,223.5) 54(49.21,223.5) 55(29.53,223.5) 56(9.84,223.5) 57(-9.84,223.5) 58(-29.53,223.5) 59(-49.21,223.5) 60(-68.9,223.5) 61(-88.58,223.5) 62(-108.27,223.5) 63(-127.95,223.5) 64(-147.64,223.5)
Top Overlay:
  region: -61.4,268.5 -76.4,268.5 -76.4,278.5 -61.4,278.5
  region: 135.45,268.5 120.45,268.5 120.45,278.5 135.45,278.5
  region: 268.5,-2.34 278.5,-2.34 278.5,-17.34 268.5,-17.34
  region: 115.77,-268.5 100.77,-268.5 100.77,-278.5 115.77,-278.5
  region: -81.08,-268.5 -96.08,-268.5 -96.08,-278.5 -81.08,-278.5
  region: -268.5,-22.03 -278.5,-22.03 -278.5,-37.03 -268.5,-37.03
  lines w6: -204,-166.24 -204,-204 -166.24,-204 ; -204,166.24 -204,204 -166.24,204 ; 166.24,-204 204,-204 204,-166.24 ; 166.24,204 204,204 204,166.24
  text "*" at -296,147.48 h50
Mechanical 5:
  region: 293.5,-293.5 -293.5,-293.5 -293.5,293.5 293.5,293.5
Mechanical 7:
  lines w1: -353.5,-199 -147.64,-199 ; -353.5,199 -147.64,199 ; -236.5,147.64 -236.5,428.5 ; -199,-353.5 -199,-147.64 ; 147.64,-236.5 428.5,-236.5 ; 147.64,236.5 428.5,236.5 ; 156.5,338.5 206.5,338.5 ; 199,-353.5 199,-147.64 ; 206.5,147.64 206.5,353.5 ; 223.5,127.95 353.5,127.95 ; 223.5,147.64 353.5,147.64 ; 236.5,353.5 236.5,147.64 236.5,428.5 ; 286.5,338.5 236.5,338.5 ; 338.5,77.95 338.5,127.95 ; 338.5,197.64 338.5,147.64 ; -338.5,-199 -333.5,-189 -343.5,-189 -338.5,-199 ; -338.5,-199 -338.5,199 ; -338.5,199 -333.5,189 -343.5,189 -338.5,199 ; -236.5,413.5 -226.5,408.5 -226.5,418.5 -236.5,413.5 ; -236.5,413.5 236.5,413.5 ; -199,-338.5 -189,-343.5 -189,-333.5 -199,-338.5 ; -199,-338.5 199,-338.5 ; 199,-338.5 189,-343.5 189,-333.5 199,-338.5 ; 206.5,338.5 196.5,333.5 196.5,343.5 206.5,338.5 ; 236.5,338.5 246.5,333.5 246.5,343.5 236.5,338.5 ; 236.5,413.5 226.5,408.5 226.5,418.5 236.5,413.5 ; 338.5,127.95 343.5,117.95 333.5,117.95 338.5,127.95 ; 338.5,147.64 343.5,157.64 333.5,157.64 338.5,147.64 ; 413.5,-236.5 418.5,-226.5 408.5,-226.5 413.5,-236.5 ; 413.5,-236.5 413.5,236.5 ; 413.5,236.5 418.5,226.5 408.5,226.5 413.5,236.5
  text "0.473in/12.014mm" at 433.5,-12.5 h25
  text "0.398in/10.109mm" at -558.5,-12.5 h25
  text "0.398in/10.109mm" at -100,-383.5 h25
  text "0.473in/12.014mm" at -100,433.5 h25
  text "0.03in/0.762mm" at 134,358.5 h25
  text "0.02in/0.5mm" at 358.5,125.3 h25
  text "Alt 2 Padstyle: OX90Y60D30P" at -337.5,-788.5 h50
  text "Alt 1 Padstyle: OX60Y90D30P" at -337.5,-728.5 h50
  text "Default Vert Padstyle: RX11Y70D0T" at -412.5,-548.5 h50
  text "Default Horiz Padstyle: RX11Y70D0T" at -425,-488.5 h50
Mechanical 13:
  drawing of 261 lines, arcs and shapes, not listed
  text "*" at -196.5,132.48 h50
Mechanical 15:
  region: -173.14,-219 -219,-219 -219,-173.14 -278.5,-173.14 -278.5,173.14 -219,173.14 -219,219 -173.14,219 -173.14,278.5 173.14,278.5 173.14,219 219,219 219,173.14 278.5,173.14 278.5,-173.14 219,-173.14 219,-219 173.14,-219 173.14,-278.5 -173.14,-278.5
  lines w6: -278.5,-173.14 -278.5,173.14 -219,173.14 -219,219 -173.14,219 -173.14,278.5 173.14,278.5 173.14,219 219,219 219,173.14 278.5,173.14 278.5,-173.14 219,-173.14 219,-219 173.14,-219 173.14,-278.5 -173.14,-278.5 -173.14,-219 -219,-219 -219,-173.14 -278.5,-173.14
3D body: height 10, standoff 0, extent 0,0 10,10

## SO-8 [mil] "STM32 package, SO8N, 4.9 x 6mm"
pads (8):
  rect 61x22 smd paste+0 mask+0: 1(-105.5,75) 2(-105.5,25) 3(-105.5,-25) 4(-105.5,-75) 5(105.5,-75) 6(105.5,-25) 7(105.5,25) 8(105.5,75)
Top Overlay:
  lines w6: -84,-103.5 84,-103.5 ; -84,103.5 84,103.5
  text "*" at -128,92 h50
Mechanical 5:
  region: 161,-123.5 -161,-123.5 -161,123.5 161,123.5
Mechanical 7:
  lines w1: -220.5,25 -105.5,25 ; -220.5,75 -105.5,75 ; -205.5,-25 -205.5,25 ; -205.5,125 -205.5,75 ; -172,-173.5 -122,-173.5 ; -122,-188.5 -122,0 -122,263.5 ; -89,-188.5 -89,0 ; -79,0 -79,188.5 ; -39,-173.5 -89,-173.5 ; 0,-98.5 194,-98.5 ; 0,98.5 194,98.5 ; 79,0 79,188.5 ; 122,0 122,263.5 ; -205.5,25 -200.5,15 -210.5,15 -205.5,25 ; -205.5,75 -200.5,85 -210.5,85 -205.5,75 ; -122,-173.5 -132,-178.5 -132,-168.5 -122,-173.5 ; -122,248.5 -112,243.5 -112,253.5 -122,248.5 ; -122,248.5 122,248.5 ; -89,-173.5 -79,-178.5 -79,-168.5 -89,-173.5 ; -79,173.5 -69,168.5 -69,178.5 -79,173.5 ; -79,173.5 79,173.5 ; 79,173.5 69,168.5 69,178.5 79,173.5 ; 122,248.5 112,243.5 112,253.5 122,248.5 ; 179,-98.5 184,-88.5 174,-88.5 179,-98.5 ; 179,-98.5 179,98.5 ; 179,98.5 184,88.5 174,88.5 179,98.5
  text "0.033in/0.838mm" at -199.25,-218.5 h25
  text "0.05in/1.27mm" at -388,37.5 h25
  text "0.197in/5.004mm" at 199,-12.5 h25
  text "0.244in/6.198mm" at -93.75,268.5 h25
  text "0.158in/4.013mm" at -93.75,193.5 h25
  text "Alt 2 Padstyle: OX90Y60D30P" at -337.5,-598.5 h50
  text "Alt 1 Padstyle: OX60Y90D30P" at -337.5,-538.5 h50
  text "Pin One Padstyle: RX61Y22D0T" at -350,-358.5 h50
  text "Default Padstyle: RX61Y22D0T" at -350,-298.5 h50
Mechanical 13:
  lines w0: -12,98.5 ccw(c0,98.5) 12,98.5
  lines w1: -122,-85 -79,-85 -79,-65 -122,-65 -122,-85 ; -122,-35 -79,-35 -79,-15 -122,-15 -122,-35 ; -122,15 -79,15 -79,35 -122,35 -122,15 ; -122,65 -79,65 -79,85 -122,85 -122,65 ; -79,-98.5 -79,98.5 79,98.5 79,-98.5 -79,-98.5 ; 79,-85 122,-85 122,-65 79,-65 79,-85 ; 79,-35 122,-35 122,-15 79,-15 79,-35 ; 79,15 122,15 122,35 79,35 79,15 ; 79,65 122,65 122,85 79,85 79,65
  text "*" at -76.5,45.5 h50
Mechanical 15:
  region: -89,-96 -146,-96 -146,96 -89,96 -89,108.5 89,108.5 89,96 146,96 146,-96 89,-96 89,-108.5 -89,-108.5
  lines w6: -146,-96 -89,-96 -89,-108.5 89,-108.5 89,-96 146,-96 146,96 89,96 89,108.5 -89,108.5 -89,96 -146,96 -146,-96
3D body: height 10, standoff 0, extent 0,0 10,10
3D body "SO-8.step": height 69.09, standoff 0, extent -122,-98.5 122.01,98.51

## SO-8-L [mil] "STM32 package, SO8N, 4.9 x 6mm"
pads (8):
  rect 49x20 smd paste+0 mask+0: 1(-103.5,75) 2(-103.5,25) 3(-103.5,-25) 4(-103.5,-75) 5(103.5,-75) 6(103.5,-25) 7(103.5,25) 8(103.5,75)
Top Overlay:
  lines w6: -84,-103.5 84,-103.5 ; -84,103.5 84,103.5
  text "*" at -126,90 h50
Mechanical 5:
  region: 147,-117.5 -147,-117.5 -147,117.5 147,117.5
Mechanical 7:
  lines w1: -218.5,25 -103.5,25 ; -218.5,75 -103.5,75 ; -203.5,-25 -203.5,25 ; -203.5,125 -203.5,75 ; -172,-173.5 -122,-173.5 ; -122,-188.5 -122,0 -122,263.5 ; -89,-188.5 -89,0 ; -79,0 -79,188.5 ; -39,-173.5 -89,-173.5 ; 0,-98.5 194,-98.5 ; 0,98.5 194,98.5 ; 79,0 79,188.5 ; 122,0 122,263.5 ; -203.5,25 -198.5,15 -208.5,15 -203.5,25 ; -203.5,75 -198.5,85 -208.5,85 -203.5,75 ; -122,-173.5 -132,-178.5 -132,-168.5 -122,-173.5 ; -122,248.5 -112,243.5 -112,253.5 -122,248.5 ; -122,248.5 122,248.5 ; -89,-173.5 -79,-178.5 -79,-168.5 -89,-173.5 ; -79,173.5 -69,168.5 -69,178.5 -79,173.5 ; -79,173.5 79,173.5 ; 79,173.5 69,168.5 69,178.5 79,173.5 ; 122,248.5 112,243.5 112,253.5 122,248.5 ; 179,-98.5 184,-88.5 174,-88.5 179,-98.5 ; 179,-98.5 179,98.5 ; 179,98.5 184,88.5 174,88.5 179,98.5
  text "0.033in/0.838mm" at -199.25,-218.5 h25
  text "0.05in/1.27mm" at -386,37.5 h25
  text "0.197in/5.004mm" at 199,-12.5 h25
  text "0.244in/6.198mm" at -93.75,268.5 h25
  text "0.158in/4.013mm" at -93.75,193.5 h25
  text "Alt 2 Padstyle: OX90Y60D30P" at -337.5,-598.5 h50
  text "Alt 1 Padstyle: OX60Y90D30P" at -337.5,-538.5 h50
  text "Pin One Padstyle: RX49Y20D0T" at -350,-358.5 h50
  text "Default Padstyle: RX49Y20D0T" at -350,-298.5 h50
Mechanical 13:
  lines w0: -12,98.5 ccw(c0,98.5) 12,98.5
  lines w1: -122,-85 -79,-85 -79,-65 -122,-65 -122,-85 ; -122,-35 -79,-35 -79,-15 -122,-15 -122,-35 ; -122,15 -79,15 -79,35 -122,35 -122,15 ; -122,65 -79,65 -79,85 -122,85 -122,65 ; -79,-98.5 -79,98.5 79,98.5 79,-98.5 -79,-98.5 ; 79,-85 122,-85 122,-65 79,-65 79,-85 ; 79,-35 122,-35 122,-15 79,-15 79,-35 ; 79,15 122,15 122,35 79,35 79,15 ; 79,65 122,65 122,85 79,85 79,65
  text "*" at -76.5,45.5 h50
Mechanical 15:
  region: -83,-89 -132,-89 -132,89 -83,89 -83,102.5 83,102.5 83,89 132,89 132,-89 83,-89 83,-102.5 -83,-102.5
  lines w6: -132,-89 -83,-89 -83,-102.5 83,-102.5 83,-89 132,-89 132,89 83,89 83,102.5 -83,102.5 -83,89 -132,89 -132,-89
3D body: height 10, standoff 0, extent 0,0 10,10
3D body "SO-8-L.step": height 69.09, standoff 0, extent -122,-98.5 122.01,98.51

## SO-8-M [mil] "STM32 package, SO8N, 4.9 x 6mm"
pads (8):
  rect 73x24 smd paste+0 mask+0: 1(-107.5,75) 2(-107.5,25) 3(-107.5,-25) 4(-107.5,-75) 5(107.5,-75) 6(107.5,-25) 7(107.5,25) 8(107.5,75)
Top Overlay:
  lines w6: -84,-103.5 84,-103.5 ; -84,103.5 84,103.5
  text "*" at -130,94 h50
Mechanical 5:
  region: 179,-133.5 -179,-133.5 -179,133.5 179,133.5
Mechanical 7:
  lines w1: -222.5,25 -107.5,25 ; -222.5,75 -107.5,75 ; -207.5,-25 -207.5,25 ; -207.5,125 -207.5,75 ; -172,-173.5 -122,-173.5 ; -122,-188.5 -122,0 -122,263.5 ; -89,-188.5 -89,0 ; -79,0 -79,188.5 ; -39,-173.5 -89,-173.5 ; 0,-98.5 194,-98.5 ; 0,98.5 194,98.5 ; 79,0 79,188.5 ; 122,0 122,263.5 ; -207.5,25 -212.5,15 -202.5,15 -207.5,25 ; -207.5,75 -212.5,85 -202.5,85 -207.5,75 ; -122,-173.5 -132,-168.5 -132,-178.5 -122,-173.5 ; -122,248.5 122,248.5 ; -122,248.5 -112,253.5 -112,243.5 -122,248.5 ; -89,-173.5 -79,-168.5 -79,-178.5 -89,-173.5 ; -79,173.5 79,173.5 ; -79,173.5 -69,178.5 -69,168.5 -79,173.5 ; 79,173.5 69,178.5 69,168.5 79,173.5 ; 122,248.5 112,253.5 112,243.5 122,248.5 ; 179,-98.5 179,98.5 ; 179,-98.5 174,-88.5 184,-88.5 179,-98.5 ; 179,98.5 174,88.5 184,88.5 179,98.5
  text "Default Padstyle: RX73Y24D0T" at -350,-298.5 h50
  text "Pin One Padstyle: RX73Y24D0T" at -350,-358.5 h50
  text "Alt 1 Padstyle: OX60Y90D30P" at -337.5,-538.5 h50
  text "Alt 2 Padstyle: OX90Y60D30P" at -337.5,-598.5 h50
  text "0.158in/4.013mm" at -93.75,193.5 h25
  text "0.244in/6.198mm" at -93.75,268.5 h25
  text "0.197in/5.004mm" at 199,-12.5 h25
  text "0.05in/1.27mm" at -390,37.5 h25
  text "0.033in/0.838mm" at -199.25,-218.5 h25
Mechanical 13:
  lines w0: -12,98.5 ccw(c0,98.5) 12,98.5
  lines w1: -122,-85 -122,-65 -79,-65 -79,-85 -122,-85 ; -122,-35 -122,-15 -79,-15 -79,-35 -122,-35 ; -122,15 -122,35 -79,35 -79,15 -122,15 ; -122,65 -122,85 -79,85 -79,65 -122,65 ; -79,-98.5 79,-98.5 79,98.5 -79,98.5 -79,-98.5 ; 79,-85 79,-65 122,-65 122,-85 79,-85 ; 79,-35 79,-15 122,-15 122,-35 79,-35 ; 79,15 79,35 122,35 122,15 79,15 ; 79,65 79,85 122,85 122,65 79,65
  text "*" at -76.5,45.5 h50
Mechanical 15:
  region: -99,-107 -164,-107 -164,107 -99,107 -99,118.5 99,118.5 99,107 164,107 164,-107 99,-107 99,-118.5 -99,-118.5
  lines w6: -164,-107 -164,107 -99,107 -99,118.5 99,118.5 99,107 164,107 164,-107 99,-107 99,-118.5 -99,-118.5 -99,-107 -164,-107
3D body: height 10, standoff 0, extent 0,0 10,10
3D body "SO-8-M.step": height 69.09, standoff 0, extent -122,-98.5 122.01,98.51

## TSSOP20 [mil] "STM32 package, TSSOP20, 6.4 x 4.4mm"
pads (20):
  rect 58x14 smd paste+0 mask+0: 1(-115,115.16) 2(-115,89.57) 3(-115,63.98) 4(-115,38.39) 5(-115,12.8) 6(-115,-12.8) 7(-115,-38.39) 8(-115,-63.98) 9(-115,-89.57) 10(-115,-115.16) 11(115,-115.16) 12(115,-89.57) 13(115,-63.98) 14(115,-38.39) 15(115,-12.8) 16(115,12.8) 17(115,38.39) 18(115,63.98) 19(115,89.57) 20(115,115.16)
Top Overlay:
  region: -154,-107.66 -164,-107.66 -164,-122.66 -154,-122.66
  region: 154,122.66 164,122.66 164,107.66 154,107.66
  lines w6: -83.42,-135 83.42,-135 ; -83.42,135 83.42,135
  text "*" at -137.5,124.16 h50
Mechanical 5:
  region: 169,-155 -169,-155 -169,155 169,155
Mechanical 7:
  lines w1: -230,89.57 -115,89.57 ; -230,115.16 -115,115.16 ; -215,39.57 -215,89.57 ; -215,165.16 -215,115.16 ; -180,-205 -130,-205 ; -130,-220 -130,0 -130,295 ; -100,-220 -100,0 ; -88,0 -88,220 ; -50,-205 -100,-205 ; 0,-130 203,-130 ; 0,130 203,130 ; 88,0 88,220 ; 130,0 130,295 ; -215,89.57 -220,79.57 -210,79.57 -215,89.57 ; -215,115.16 -220,125.16 -210,125.16 -215,115.16 ; -130,-205 -140,-200 -140,-210 -130,-205 ; -130,280 130,280 ; -130,280 -120,285 -120,275 -130,280 ; -100,-205 -90,-200 -90,-210 -100,-205 ; -88,205 88,205 ; -88,205 -78,210 -78,200 -88,205 ; 88,205 78,210 78,200 88,205 ; 130,280 120,285 120,275 130,280 ; 188,-130 188,130 ; 188,-130 183,-120 193,-120 188,-130 ; 188,130 183,120 193,120 188,130
  text "Default Padstyle: RX58Y14D0T" at -350,-330 h50
  text "Pin One Padstyle: RX58Y14D0T" at -350,-390 h50
  text "Alt 1 Padstyle: OX60Y90D30P" at -337.5,-570 h50
  text "Alt 2 Padstyle: OX90Y60D30P" at -337.5,-630 h50
  text "0.176in/4.47mm" at -87.5,225 h25
  text "0.26in/6.604mm" at -87.5,300 h25
  text "0.26in/6.604mm" at 208,-12.5 h25
  text "0.026in/0.65mm" at -410,89.86 h25
  text "0.03in/0.762mm" at -202.5,-250 h25
Mechanical 13:
  lines w0: -12,130 ccw(c0,130) 12,130
  lines w1: -130,-121.16 -130,-109.16 -88,-109.16 -88,-121.16 -130,-121.16 ; -130,-95.57 -130,-83.57 -88,-83.57 -88,-95.57 -130,-95.57 ; -130,-69.98 -130,-57.98 -88,-57.98 -88,-69.98 -130,-69.98 ; -130,-44.39 -130,-32.39 -88,-32.39 -88,-44.39 -130,-44.39 ; -130,-18.8 -130,-6.8 -88,-6.8 -88,-18.8 -130,-18.8 ; -130,6.8 -130,18.8 -88,18.8 -88,6.8 -130,6.8 ; -130,32.39 -130,44.39 -88,44.39 -88,32.39 -130,32.39 ; -130,57.98 -130,69.98 -88,69.98 -88,57.98 -130,57.98 ; -130,83.57 -130,95.57 -88,95.57 -88,83.57 -130,83.57 ; -130,109.16 -130,121.16 -88,121.16 -88,109.16 -130,109.16 ; -88,-130 88,-130 88,130 -88,130 -88,-130 ; 88,-121.16 88,-109.16 130,-109.16 130,-121.16 88,-121.16 ; 88,-95.57 88,-83.57 130,-83.57 130,-95.57 88,-95.57 ; 88,-69.98 88,-57.98 130,-57.98 130,-69.98 88,-69.98 ; 88,-44.39 88,-32.39 130,-32.39 130,-44.39 88,-44.39 ; 88,-18.8 88,-6.8 130,-6.8 130,-18.8 88,-18.8 ; 88,6.8 88,18.8 130,18.8 130,6.8 88,6.8 ; 88,32.39 88,44.39 130,44.39 130,32.39 88,32.39 ; 88,57.98 88,69.98 130,69.98 130,57.98 88,57.98 ; 88,83.57 88,95.57 130,95.57 130,83.57 88,83.57 ; 88,109.16 88,121.16 130,121.16 130,109.16 88,109.16
  text "*" at -85.5,77 h50
Mechanical 15:
  region: -98,-132.16 -154,-132.16 -154,132.16 -98,132.16 -98,140 98,140 98,132.16 154,132.16 154,-132.16 98,-132.16 98,-140 -98,-140
  lines w6: -154,-132.16 -154,132.16 -98,132.16 -98,140 98,140 98,132.16 154,132.16 154,-132.16 98,-132.16 98,-140 -98,-140 -98,-132.16 -154,-132.16
3D body: height 10, standoff 0, extent 0,0 10,10
3D body "TSSOP20.step": height 47.09, standoff 0, extent -130,-130 130,130